# EAGLE library part ATMEGA328PB-MU (library ATMEGA328PB-MU)
Microchip Technology ATMEGA328PB-MU, 8bit AVR Microcontroller, 20MHz, 32 kB Flash, 32-Pin VQFN Source: Datasheet <http://ww1.microchip.com/downloads/en/DeviceDoc/40001907A.pdf>
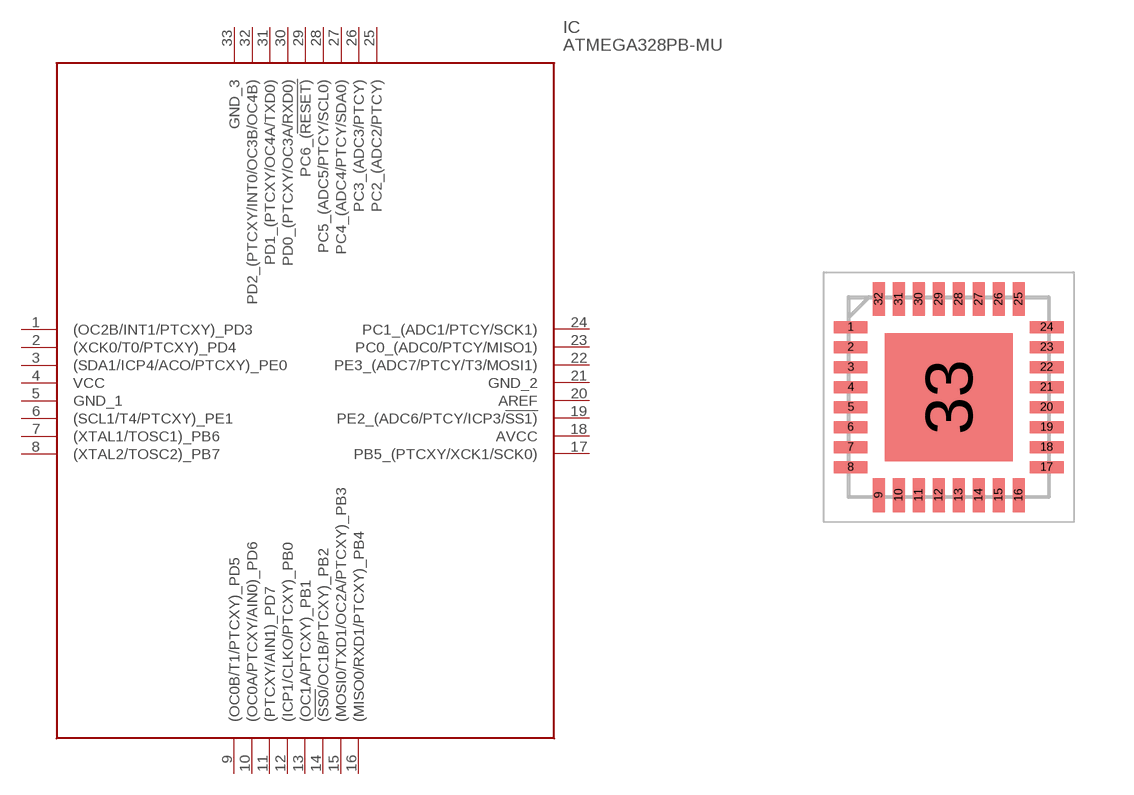
[diagram p0: symbol with the pads of QFN50P500X500X90-33N; footprint QFN50P500X500X90-33N]

Designator prefix IC

## ATMEGA328PB-MU (Arrow_Part_Number: ATMEGA328PB-MU; Arrow_Price-Stock: https://www.arrow.com/en/products/atmega328pb-mu/microchip-technology; Description: Microchip Technology ATMEGA328PB-MU, 8bit AVR Microcontroller, 20MHz, 32 kB Flash, 32-Pin VQFN; Height: 0.9mm; Manufacturer_Name: Microchip; Manufacturer_Part_Number: ATMEGA328PB-MU; Mouser_Part_Number: 556-ATMEGA328PB-MU; Mouser_Price-Stock: https://www.mouser.co.uk/ProductDetail/Microchip-Technology-Atmel/ATMEGA328PB-MU?qs=jy4bLUHv09ij6n2RwzX9vg%3D%3D)  [QFN50P500X500X90-33N]
1  (OC2B/INT1/PTCXY)_PD3
2  (XCK0/T0/PTCXY)_PD4
3  (SDA1/ICP4/ACO/PTCXY)_PE0
4  VCC
5  GND_1
6  (SCL1/T4/PTCXY)_PE1
7  (XTAL1/TOSC1)_PB6
8  (XTAL2/TOSC2)_PB7
9  (OC0B/T1/PTCXY)_PD5
10  (OC0A/PTCXY/AIN0)_PD6
11  (PTCXY/AIN1)_PD7
12  (ICP1/CLKO/PTCXY)_PB0
13  (OC1A/PTCXY)_PB1
14  (!SS0!/OC1B/PTCXY)_PB2
15  (MOSI0/TXD1/OC2A/PTCXY)_PB3
16  (MISO0/RXD1/PTCXY)_PB4
17  PB5_(PTCXY/XCK1/SCK0)
18  AVCC
19  PE2_(ADC6/PTCY/ICP3/!SS1)
20  AREF
21  GND_2
22  PE3_(ADC7/PTCY/T3/MOSI1)
23  PC0_(ADC0/PTCY/MISO1)
24  PC1_(ADC1/PTCY/SCK1)
25  PC2_(ADC2/PTCY)
26  PC3_(ADC3/PTCY)
27  PC4_(ADC4/PTCY/SDA0)
28  PC5_(ADC5/PTCY/SCL0)
29  PC6_(!RESET)
30  PD0_(PTCXY/OC3A/RXD0)
31  PD1_(PTCXY/OC4A/TXD0)
32  PD2_(PTCXY/INT0/OC3B/OC4B)
33  GND_3

## Footprint QFN50P500X500X90-33N (pad centres in mm)
ATMEGA328PB-MU-1
smd 0.85 x 0.3: 1 -2.45,1.75; 2 -2.45,1.25; 3 -2.45,0.75; 4 -2.45,0.25; 5 -2.45,-0.25; 6 -2.45,-0.75; 7 -2.45,-1.25; 8 -2.45,-1.75; 17 2.45,-1.75; 18 2.45,-1.25; 19 2.45,-0.75; 20 2.45,-0.25; 21 2.45,0.25; 22 2.45,0.75; 23 2.45,1.25; 24 2.45,1.75
smd 0.3 x 0.85: 9 -1.75,-2.45; 10 -1.25,-2.45; 11 -0.75,-2.45; 12 -0.25,-2.45; 13 0.25,-2.45; 14 0.75,-2.45; 15 1.25,-2.45; 16 1.75,-2.45; 25 1.75,2.45; 26 1.25,2.45; 27 0.75,2.45; 28 0.25,2.45; 29 -0.25,2.45; 30 -0.75,2.45; 31 -1.25,2.45; 32 -1.75,2.45
smd 3.2 x 3.2: 33 0,0